# EAGLE library part TMC603A-LA (library trinamic)
TRINAMIC Three phase motor predriver with BLDC back EMF commutation hallFX™ and current sensing Information given in this library is believed to be accurate and reliable. However no warranty is given for its correctness. Datasheet for TMC603 <http://www.trinamic.com/tmc/media/Downloads/integrated_circuits/TMC603/tmc603A_datasheet.pdf> Description Three phase motor predriver with BLDC back EMF commutation hallFX™ and current sensing The TMC603 is a three phase BLDC motor driver IC for highly compact and energy efficient drive solutions. Control algorithms previously only found in much more complex servo drives can now be realized with a minimum of external components. The TMC603 directly drives 6 external N-channel MOSFETs for motor currents up to 20A and up to 50V. It integrates current measurement without the need for high current sense resistors, and the sensorless commutation circuitry hallFX™. Its integrated support for sine commutation as well as for back EMF sensing and commutation saves cost and allows for maximum drive efficiency. Depending on the desired commutation scheme and the bus interface requirements, the TMC603 forms a complete motor driver system in combination with an external 8 bit processor or with a more powerful 32 bit processor. Protection and diagnostic features as well as a step down switching regulator further reduce system cost and increase reliability. The TMC603 also supports control of three phase stepper motors as well as two phase stepper motors using two devices. Specifications Main characteristics low power dissipation high precision two range current sense amplifiers integrated MOSFET current sensing: no shunt needed hallFX™ sensorless back EMF commutation break-before-make logic: No special µC PWM needed overcurrent, short-2-GND and undervoltage protection and diagnosis integrated step down switching regulator up to 500mA / 300kHz Electrical data up to 30A motor current 9V to 50V supply voltage EMV optimized current controlled gate drivers up to 150mA QGD protection: supports recent power MOSFET generation 3.3V or 5V interface Package QFN52 8x8mm2 RoHS compliant
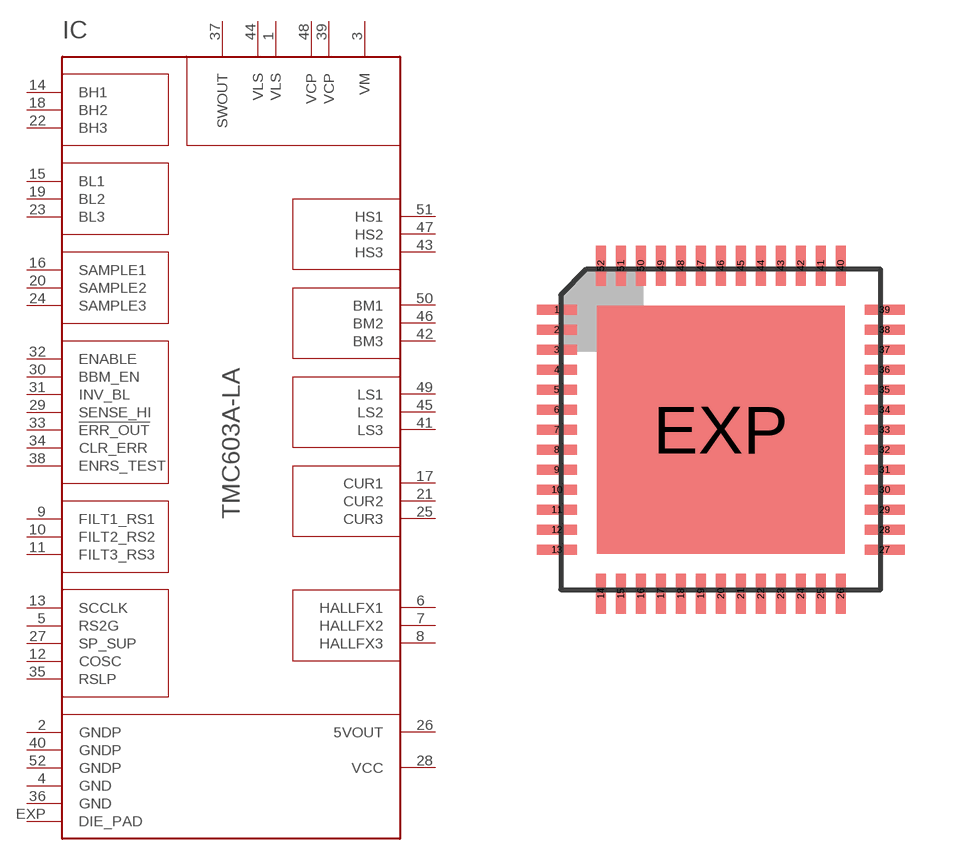
[diagram p21: symbol with the pads of QFN52; footprint QFN52]

Designator prefix IC

## TMC603A-LA  [QFN52]
1  VLS  in
2  GNDP  in
3  VM  in
4  GND  in
5  RS2G  in
6  HALLFX1  out
7  HALLFX2  out
8  HALLFX3  out
9  FILT1_RS1
10  FILT2_RS2
11  FILT3_RS3
12  COSC  in
13  SCCLK  in
14  BH1  in
15  BL1  in
16  SAMPLE1  in
17  CUR1  out
18  BH2  in
19  BL2  in
20  SAMPLE2  in
21  CUR2  out
22  BH3  in
23  BL3  in
24  SAMPLE3  in
25  CUR3  out
26  5VOUT  out
27  SP_SUP  in
28  VCC  in
29  SENSE_HI  in
30  BBM_EN  in
31  INV_BL  in
32  ENABLE  in
33  !ERR_OUT  out
34  CLR_ERR  in
35  RSLP  in
36  GND  in
37  SWOUT  out
38  ENRS_TEST
39  VCP  in
40  GNDP  in
41  LS3  out
42  BM3  in
43  HS3  out
44  VLS  in
45  LS2  out
46  BM2  in
47  HS2  out
48  VCP  in
49  LS1  out
50  BM1  in
51  HS1  out
52  GNDP  in
EXP  DIE_PAD  in

## Footprint QFN52 (pad centres in mm)
smd 1 x 0.25: 1 -3.91,3.19; 2 -3.91,2.69; 3 -3.91,2.19; 4 -3.91,1.69; 5 -3.91,1.19; 6 -3.91,0.69; 7 -3.91,0.19; 8 -3.91,-0.31; 9 -3.91,-0.81; 10 -3.91,-1.31; 11 -3.91,-1.81; 12 -3.91,-2.31; 13 -3.91,-2.81; 27 4.29,-2.81; 28 4.29,-2.31; 29 4.29,-1.81; 30 4.29,-1.31; 31 4.29,-0.81; 32 4.29,-0.31; 33 4.29,0.19; 34 4.29,0.69; 35 4.29,1.19; 36 4.29,1.69; 37 4.29,2.19; 38 4.29,2.69; 39 4.29,3.19
smd 0.25 x 1: 14 -2.81,-3.91; 15 -2.31,-3.91; 16 -1.81,-3.91; 17 -1.31,-3.91; 18 -0.81,-3.91; 19 -0.31,-3.91; 20 0.19,-3.91; 21 0.69,-3.91; 22 1.19,-3.91; 23 1.69,-3.91; 24 2.19,-3.91; 25 2.69,-3.91; 26 3.19,-3.91; 40 3.19,4.29; 41 2.69,4.29; 42 2.19,4.29; 43 1.69,4.29; 44 1.19,4.29; 45 0.69,4.29; 46 0.19,4.29; 47 -0.31,4.29; 48 -0.81,4.29; 49 -1.31,4.29; 50 -1.81,4.29; 51 -2.31,4.29; 52 -2.81,4.29
smd 6.2 x 6.2: EXP 0.19,0.19